# EAGLE library part MAX32664_TQFN (library MAX32664)
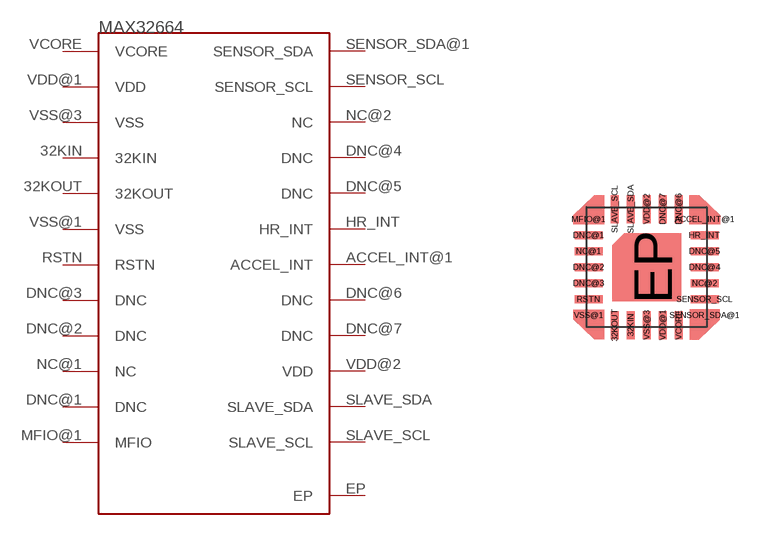
[diagram p0: symbol with the pads of MAX32664; footprint MAX32664]

Designator prefix -

## MAX32664_TQFN  [MAX32664]
32KIN  32KIN
32KOUT  32KOUT
ACCEL_INT@1  ACCEL_INT
DNC@1  DNC
DNC@2  DNC
DNC@3  DNC
DNC@4  DNC
DNC@5  DNC
DNC@6  DNC
DNC@7  DNC
EP  EP
HR_INT  HR_INT
MFIO@1  MFIO
NC@1  NC
NC@2  NC
RSTN  RSTN
SENSOR_SCL  SENSOR_SCL
SENSOR_SDA@1  SENSOR_SDA
SLAVE_SCL  SLAVE_SCL
SLAVE_SDA  SLAVE_SDA
VCORE  VCORE
VDD@1  VDD
VDD@2  VDD
VSS@1  VSS
VSS@3  VSS

## Footprint MAX32664 (pad centres in mm)
smd 0.2 x 0.7: 32KIN 1.75,0.15; 32KOUT 1.35,0.15; DNC@6 2.95,3.05; DNC@7 2.55,3.05; SLAVE_SCL 1.35,3.05; SLAVE_SDA 1.75,3.05; VCORE 2.95,0.15; VDD@1 2.55,0.15; VDD@2 2.15,3.05; VSS@3 2.15,0.15
smd 0.7 x 0.2: ACCEL_INT@1 3.6,2.8; DNC@1 0.7,2.4; DNC@2 0.7,1.6; DNC@3 0.7,1.2; DNC@4 3.6,1.6; DNC@5 3.6,2; HR_INT 3.6,2.4; MFIO@1 0.7,2.8; NC@1 0.7,2; NC@2 3.6,1.2; RSTN 0.7,0.8; SENSOR_SCL 3.6,0.8; SENSOR_SDA@1 3.6,0.4; VSS@1 0.7,0.4
smd 1.4 x 1.7: EP 2.3,1.6